# Altium schematic symbol library Wurth-RJ45-7499111221A.SchLib: 1 symbol
Pins are listed as number, name and electrical type; pins without a type are passive.

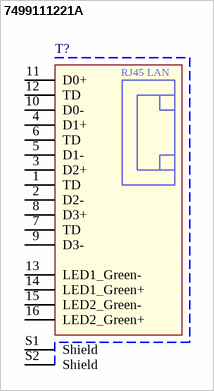
[diagram p0: symbol 7499111221A]

## 7499111221A
designator T?
WE-RJ45 LAN Transformer, 10/100/1000 Base-T, THT, Port 1x1, Tab Up; Part Number: 7499111221A; PoE: non-PoE; LED (Left-Right): green-green; USB: No; ComponentLink1Description: Manufacturer; ComponentLink1URL: http://www.we-online.de; ComponentLink2Description: Datasheet; ComponentLink2URL: http://katalog.we-online.de/pbs/datasheet/7499111221A.pdf; Published Date: Dec. 2017; Publisher: Wurth Elektronik; Tab Position: Up; Port Number: 1x1; Data Rate: 10/100/1000 Base-T; Operating Temperature: 0 to +70 degC; Mounting Technology: THT; Supplier Part Number 1: 710-7499111221A; Supplier 1: Mouser
footprint 7499111221A
pins: 1 TD, 2 D2-, 3 D2+, 4 D1+, 5 D1-, 6 TD, 7 TD, 8 D3+, 9 D3-, 10 D0-, 11 D0+, 12 TD, 13 LED1_Green-, 14 LED1_Green+, 15 LED2_Green-, 16 LED2_Green+, S1 Shield, S2 Shield
text: RJ45 LAN